# Altium schematic symbol library USBC.SchLib: 1 symbol
Pins are listed as number, name and electrical type; pins without a type are passive.

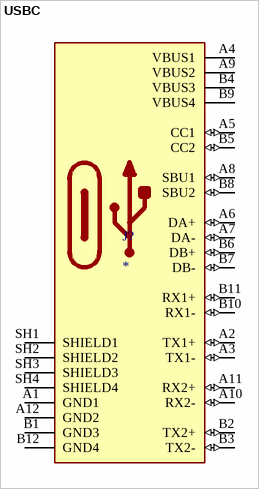
[diagram p0: symbol USBC]

## USBC
designator J?
USB-C (USB TYPE-C) USB 3.2 Gen 2 (USB 3.1 Gen 2, Superspeed + (USB 3.1)) Receptacle Connector 24 Position Surface Mount, Right Angle; Through Hole; MF: Molex; MP: 2012670005; SnapEDA_Link: https://www.snapeda.com/parts/2012670005/Molex/view-part/?ref=snap; Package: None; Value: *; Check_prices: https://www.snapeda.com/parts/2012670005/Molex/view-part/?ref=eda
footprint MOLEX_2012670005
pins: A1 GND1, A2 TX1+ (io), A3 TX1- (io), A4 VBUS1 (power), A5 CC1 (io), A6 DA+ (io), A7 DA- (io), A8 SBU1 (io), A9 VBUS2 (power), A10 RX2- (io), A11 RX2+ (io), A12 GND2, B1 GND3, B2 TX2+ (io), B3 TX2- (io), B4 VBUS3 (power), B5 CC2 (io), B6 DB+ (io), B7 DB- (io), B8 SBU2 (io), B9 VBUS4 (power), B10 RX1- (io), B11 RX1+ (io), B12 GND4, SH1 SHIELD1, SH2 SHIELD2, SH3 SHIELD3, SH4 SHIELD4